# Altium schematic symbol library AUDIO.SchLib: 1 symbol
Pins are listed as number, name and electrical type; pins without a type are passive.

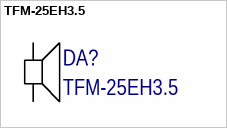
[diagram p0: symbol TFM-25EH3.5]

## TFM-25EH3.5
designator DA?
Buzzers   3V 3mA 2kHz 70dB @ 3V, 10cm Through Hole PC Pins; Manufacturer: East Electronics; Voltage Range: 3-15V; Operating Mode: Continuous; Manufacturer Part Number: TFM-25EH3.5; Frequency: 2kHz; Sound Pressure Level (SPL): 70dB @ 3V, 10cm; Current - Supply: 3mA; Operating Temperature: -40°C ~ 85°C; Size / Dimension: 0.669"" Dia (17.00mm); Height - Seated (Max): 0.315"" (8.00mm); Voltage - Rated: 3V
footprint BUZZER_TFM-25EH3.5 (EXTERNAL-DRIVEN PIEZO TRANSDUCER)
pins: 1, 2